# Altium integrated library Seeed-OPL-Antenna.IntLib: 7 symbols
Pins are listed as number, name and electrical type; pins without a type are passive.

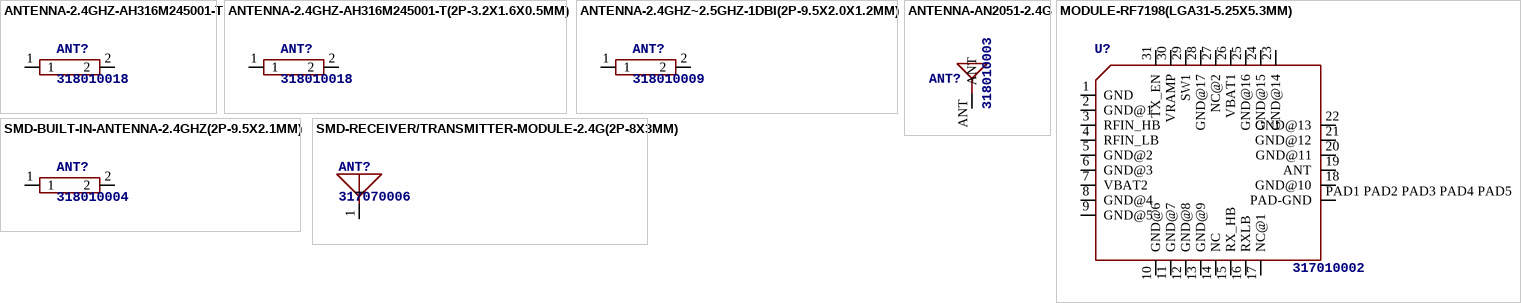
[diagram p0: symbols ANTENNA-2.4GHZ-AH316M245001-T to SMD-RECEIVER/TRANSMITTER-MODULE-2.4G(2P-8X3MM)]

## ANTENNA-2.4GHZ-AH316M245001-T
designator ANT?, comment 318010018
MPN: AH316M245001-T
footprint ANT2-SMD-3.2X1.6X0.5MM
pins: 1, 2

## ANTENNA-2.4GHZ-AH316M245001-T(2P-3.2X1.6X0.5MM)
designator ANT?, comment 318010018
MPN: AH316M245001-T
footprint ANT2-SMD-3.2X1.6X0.5MM
pins: 1, 2

## ANTENNA-2.4GHZ~2.5GHZ-1DBI(2P-9.5X2.0X1.2MM)
designator ANT?, comment 318010009
MPN: 2450AT45A100E
footprint ANT2-SMD-9.5X2X1.2MM
pins: 1, 2

## ANTENNA-AN2051-2.4G
designator ANT?, comment 318010003
MPN: AN2051
footprint ANT-SMD2P-5.05X2X1.07MM
pins: ANT

## MODULE-RF7198(LGA31-5.25X5.3MM)
designator U?, comment 317010002
MPN: RF7198
footprint LGA31-0.5-5.25X5.3MM
pins: 1 GND (oe), 2 GND@1 (oe), 3 RFIN_HB, 4 RFIN_LB, 5 GND@2 (oe), 6 GND@3 (oe), 7 VBAT2, 8 GND@4 (oe), 9 GND@5 (oe), 10 GND@6 (oe), 11 GND@7 (oe), 12 GND@8 (oe), 13 GND@9 (oe), 14 NC, 15 RX_HB, 16 RXLB, 17 NC@1, 18 GND@10 (oe), 19 ANT, 20 GND@11 (oe), 21 GND@12 (oe), 22 GND@13 (oe), 23 GND@14 (oe), 24 GND@15 (oe), 25 GND@16 (oe), 26 VBAT1, 27 NC@2 (oe), 28 GND@17, 29 SW1, 30 VRAMP, 31 TX_EN, PAD1 PAD2 PAD3 PAD4 PAD5 PAD-GND (oe)

## SMD-BUILT-IN-ANTENNA-2.4GHZ(2P-9.5X2.1MM)
designator ANT?, comment 318010004
MPN: an9520
footprint ANT2-SMD-9.5X2X1.2MM
pins: 1, 2

## SMD-RECEIVER/TRANSMITTER-MODULE-2.4G(2P-8X3MM)
designator ANT?, comment 317070006
footprint ANT2-SMD-8X3X1MM
pins: 1